# Altium footprint library 2N5172.PcbLib: 1 footprints
Each footprint in its own frame and in the unit in brackets; x right, y up, seen from the top. Pads: shape width x height; smd on the part's side, far side on the other; paste and mask are expansions set on the pad; w line width, h text height; cw(c..) or ccw(c..) is an arc to the next point about the centre after c.
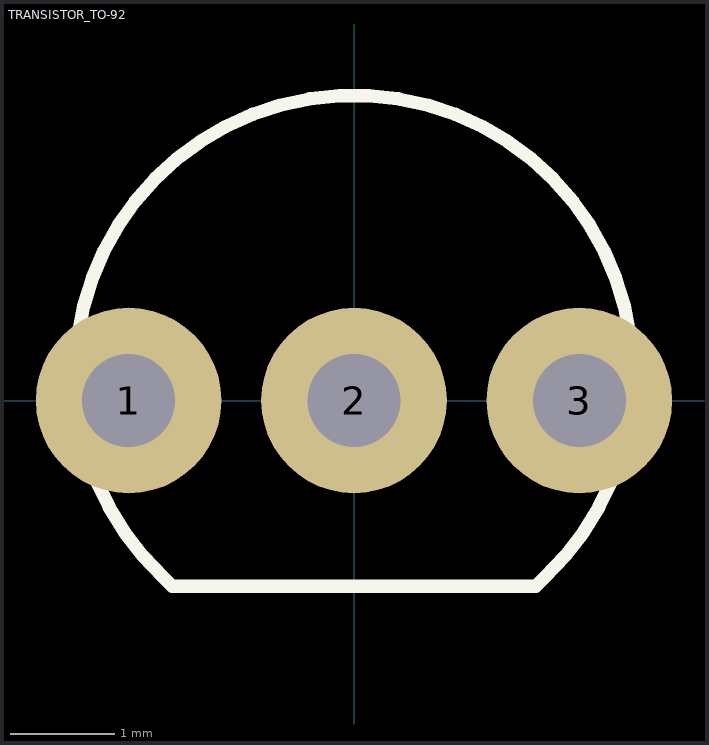
[diagram p0: the footprint, top view; thin cyan lines are the x and y axes]

## TRANSISTOR_TO-92 [mil]
pads (3):
  round 70 hole 35: 1(-85,0) 2(0,0) 3(85,0)
Top Overlay:
  lines w5: -71.89,-66.69 cw(c0,10) 71.89,-66.69 68.58,-70 -68.58,-70 -71.89,-66.69